# Altium footprint library Phoenix Contact.PcbLib: 1 footprints
Each footprint in its own frame and in the unit in brackets; x right, y up, seen from the top. Pads: shape width x height; smd on the part's side, far side on the other; paste and mask are expansions set on the pad; w line width, h text height; cw(c..) or ccw(c..) is an arc to the next point about the centre after c.
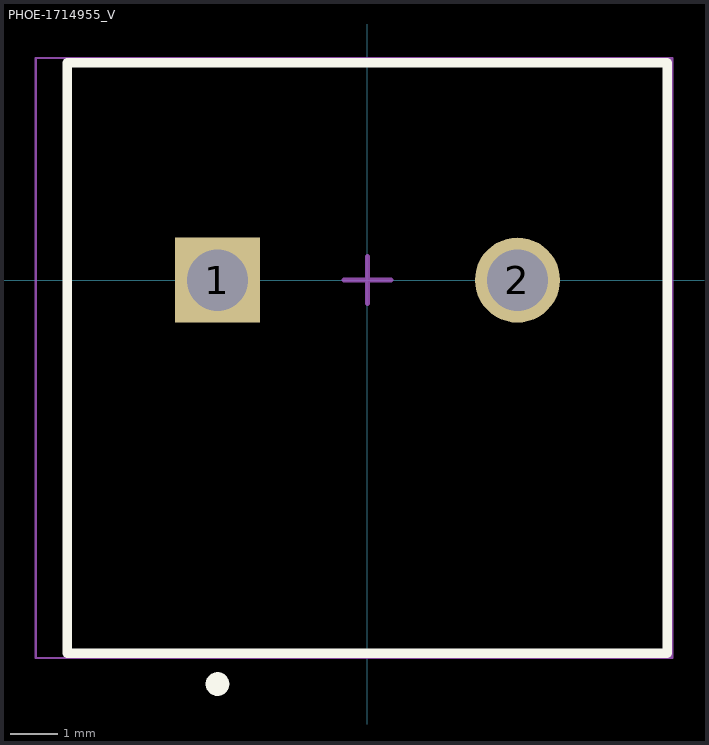
[diagram p0: the footprint, top view; thin cyan lines are the x and y axes]

## PHOE-1714955_V [mm] "Terminal Block, 2-Leads, Body 12.7x12.5mm, Pitch 6.35mm"
height 21.5
pads (2):
  rect 1.8x1.8 hole 1.3: 1(-3.175,0)
  round 1.8 hole 1.3: 2(3.175,0)
Top Overlay:
  circle w0.25: c-3.175,-8.55 r0.125
  lines w0.2: -6.35,-7.9 6.35,-7.9 6.35,4.6 -6.35,4.6 -6.35,-7.9
Mechanical 13:
  lines w0.1: -6.35,-7.9 6.35,-7.9 6.35,4.6 -6.35,4.6 -6.35,-7.9
Mechanical 15:
  lines w0.05: -7.02,-8 6.45,-8 6.45,4.7 -7.02,4.7 -7.02,-8
  lines w0.1: -0.5,0 0.5,0 ; 0,-0.5 0,0.5
3D body "1714955_03.stp": height 21.51, standoff -4.99, extent -6.92,-7.9 6.35,4.6